# Altium footprint library CON2.54x8.PcbLib: 1 footprints
Each footprint in its own frame and in the unit in brackets; x right, y up, seen from the top. Pads: shape width x height; smd on the part's side, far side on the other; paste and mask are expansions set on the pad; w line width, h text height; cw(c..) or ccw(c..) is an arc to the next point about the centre after c.
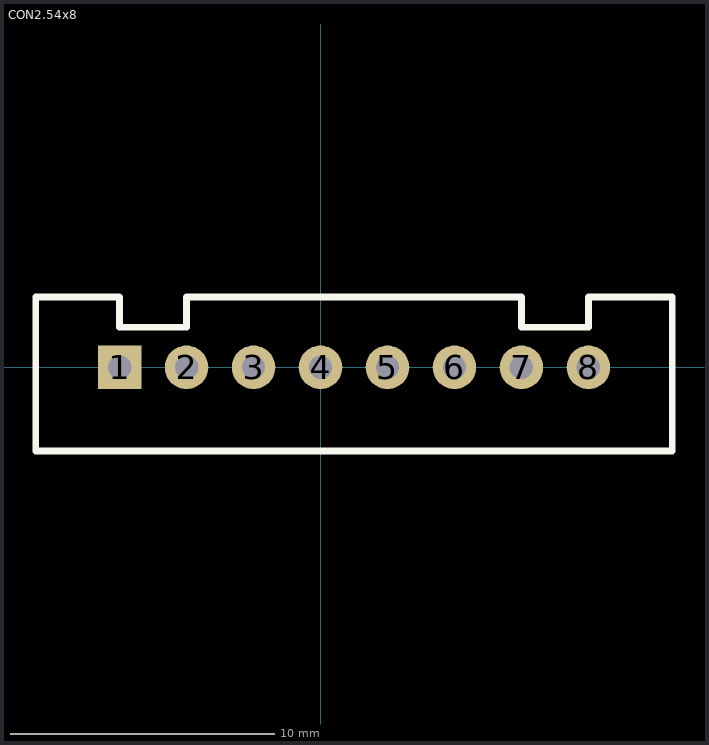
[diagram p0: the footprint, top view; thin cyan lines are the x and y axes]

## CON2.54x8 [mil] "连接器"
pads (8):
  rect 65x65 hole 35: 1(-300,0)
  round 65 hole 35: 2(-200,0) 3(-100,0) 4(0,0) 5(100,0) 6(200,0) 7(300,0) 8(400,0)
Top Overlay:
  lines w10: -425,-125 -425,105 -300,105 -300,60 -200,60 -200,105 300,105 300,60 400,60 400,105 440,105 525,105 525,-125 -425,-125